# Altium schematic symbol library ShutdownCircuit.SCHLIB: 56 symbols
Pins are listed as number, name and electrical type; pins without a type are passive.

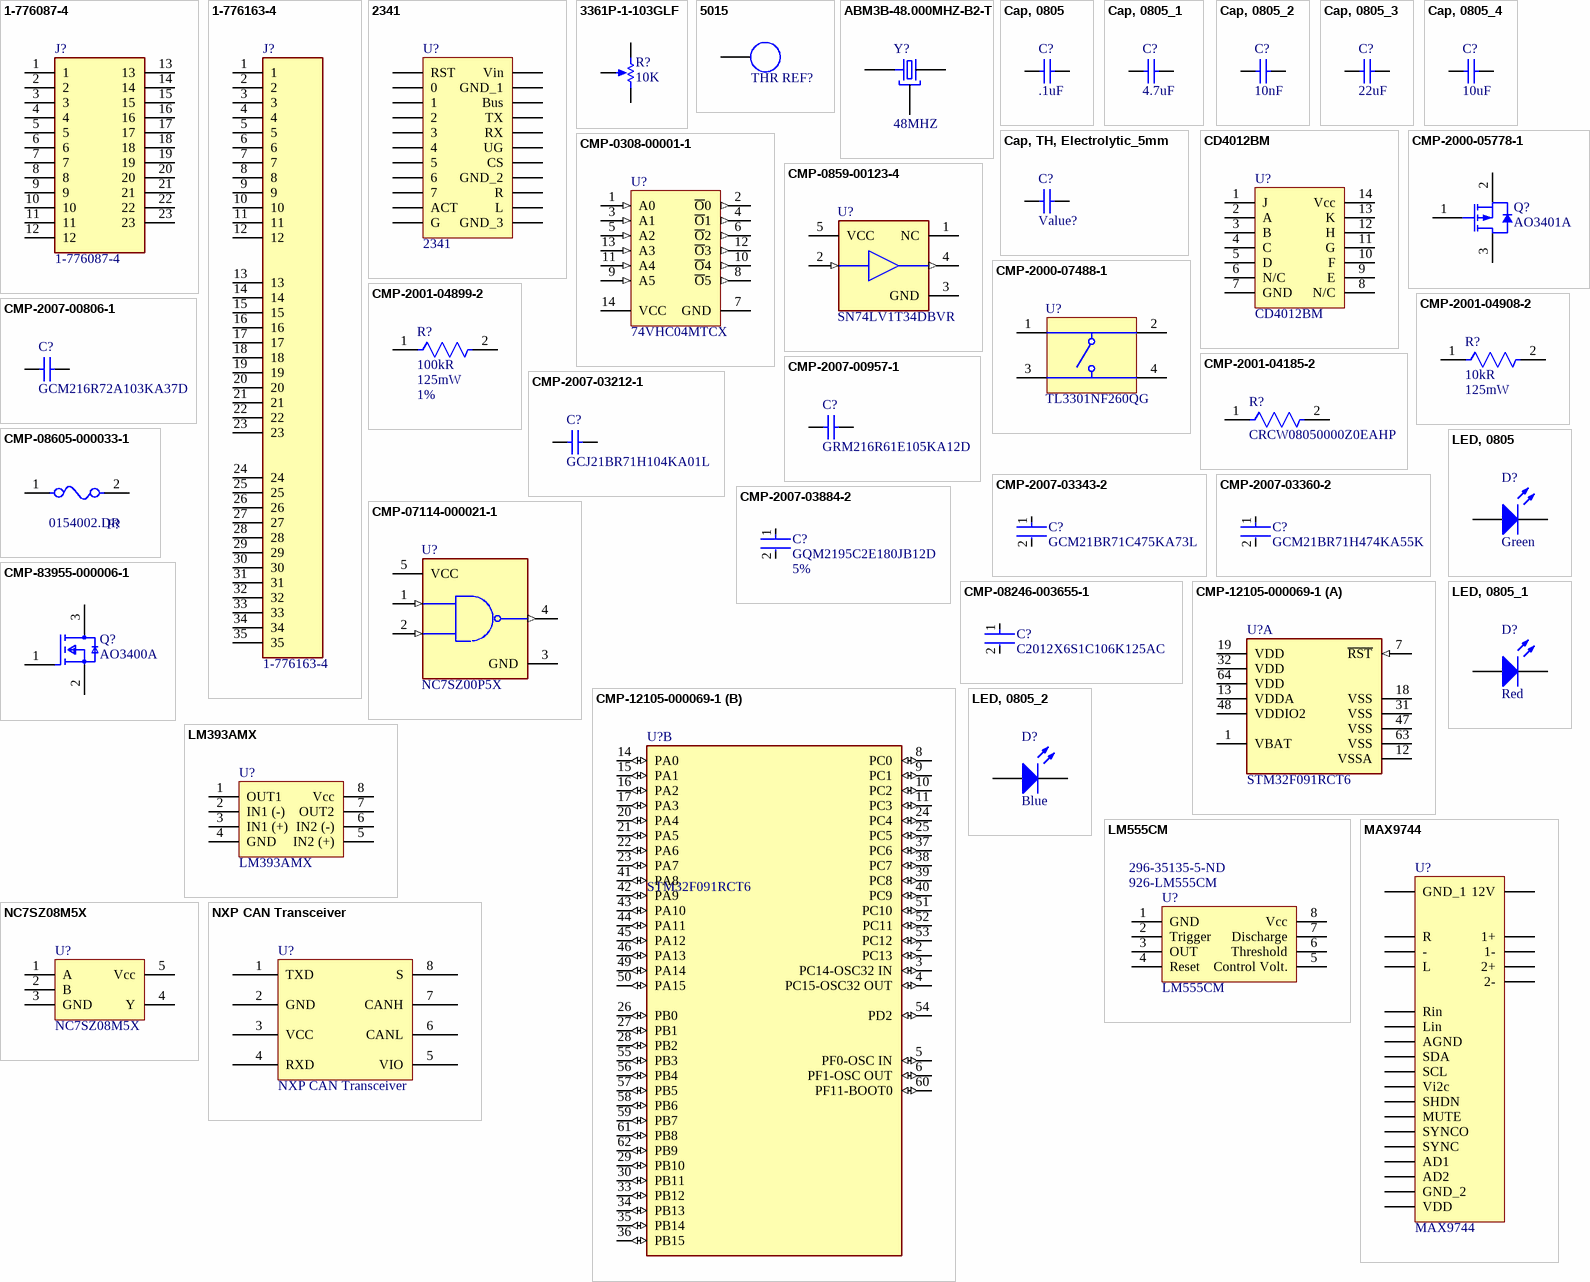
[diagram p0: symbols 1-776087-4 to NXP CAN Transceiver]

## 1-776087-4
designator J?
Conn Power HDR 23 POS 4mm Solder RA Thru-Hole 23 Terminal 1 Port Automotive; MF: TE Connectivity; Package: None; Value: *; Availability: Unavailable; SnapEDA_Link: https://www.snapeda.com/parts/1-776087-4/TE%20Connectivity%20AMP%20Connectors/view-part/1466236/?ref=snap; Price: None; MP: 1-776087-4
footprint TE_1-776087-4
pins: 1, 2, 3, 4, 5, 6, 7, 8, 9, 10, 11, 12, 13, 14, 15, 16, 17, 18, 19, 20, 21, 22, 23

## 1-776163-4
designator J?
Conn Power HDR 35 POS 4mm Solder RA Thru-Hole 1 Terminal 1 Port Automotive; MF: TE Connectivity; Value: *; Digi-Key_Purchase_URL: https://www.digikey.com/product-detail/en/te-connectivity-amp-connectors/1-776163-4/A106557-ND/1893347?utm_source=snapeda&utm_medium=aggregator&utm_campaign=symbol; EU_RoHS_Compliance: Compliant; MP: 1-776163-4; Package: None; TE_purchase_URL: https://www.te.com/usa-en/product-1-776163-4.html?te_bu=Cor&te_type=disp&te_campaign=seda_glo_cor-seda-global-disp-prtnr-fy19-seda-model-bom-cta_sma-317_1&elqCampaignId=32493; SnapEDA_Link: https://www.snapeda.com/parts/1-776163-4/TE%20Connectivity%20AMP%20Connectors/view-part/1468307/?ref=snap; Digi-Key_Part_Number: A106557-ND
footprint TE_1-776163-4
pins: 1, 2, 3, 4, 5, 6, 7, 8, 9, 10, 11, 12, 13, 14, 15, 16, 17, 18, 19, 20, 21, 22, 23, 24, 25, 26, 27, 28, 29, 30, 31, 32, 33, 34, 35

## 2341
designator U?
Adafruit Sound Board; TargetLibrary: RITRacing-ICs; PartNumber: 2341; Manufacturer: Adafruit; Publisher: T.Tallo; Published: 20Oct2016; Status: Active; ComponentLink1URL: https://learn.adafruit.com/adafruit-audio-fx-sound-board/downloads; ComponentLink1Description: Datasheet
footprint 2341 (Adafruit 2341 Soundboard)
pins: 0, 1, 2, 3, 4, 5, 6, 7, ACT, Bus, CS, G, GND_1, GND_2, GND_3, L, R, RST, RX, TX, UG, Vin

## 3361P-1-103GLF
designator R?, comment 10K
Trim Pot, 10k, SMD; TargetLibrary: RITRacing-Resistors; MFG: Bourns; Publisher: T.Tallo; Published: 22Oct2016; Status: Active; Value: 10K; Datasheet: http://www.mouser.com/ds/2/54/361-776949.pdf
footprint 3361P-1-103GLF (Bourns SMD Trim Pot)
pins: 1 VCC, 2 WIPER, 3 GND

## 5015
designator THR REF?  (value not drawn)
SMD Test Point; Manufacturer: Keystone Electronics; TargetLibrary: RITRacing-Connectors; PartNumber: 5015; Publisher: T.Tallo; Published: 22Oct2016; Status: Active; ComponentLink1URL: http://www.mouser.com/ds/2/215/005-5009-743680.pdf; ComponentLink1Description: Datasheet
footprint 5015 (SMD Test Point)
pins: 1

## ABM3B-48.000MHZ-B2-T
designator Y?, comment 48MHZ
CRYSTAL, 48MHZ, 18PF, 5 X 3.2MM; Product Range:ABM3B Series; Frequency Nom:48MHz; Frequency Stability + / -:50ppm; Frequency Tolerance + / -:20ppm; Crystal Case:SMD, 5mm x 3.2mm; Load Capacitance:18pF; Operating Temperature Min:-20 C; Manufacturer 1: Abracon; MP: ABM3B-48.000MHZ-B2-T; ESR (Equivalent Series Resistance): 50R; Tolerance: 20ppm; Frequency Stability: 50ppm; Package: None; Price: None; Value: *; Availability: Unavailable; Supplier 1: Digi-Key; Supplier Part Number 1: 535-9133-1-ND; Manufacturer Part Number 1: ABM3B-48.000MHZ-B2-T; RoHS: Yes; Category: Crystals; Stock 1: 2963; Pricing 1: 1=0.95000, 10=0.83900, 50=0.78440, 100=0.69310, 500=0.65664 (USD); Mount: Surface Mount; Case/Package: SMD/SMT; Number of Pins: 4; Min Operating Temperature: -20°C; Max Operating Temperature: 70°C; Frequency: 48MHz; Load Capacitance: 18pF; Package Quantity: 1000; Packaging: Tape and Reel; Frequency Tolerance: 20ppm; Termination: SMD/SMT; Resistor Type: Ceramic; Series: ABM3B; Operating Frequency: 48 MHz; Series Resistance: 50R; Length: 5mm; Width: 3.2mm; Height: 0.043inch; Depth: 3.2mm; REACH SVHC: No SVHC; Lead Free: Lead Free; ComponentLink1URL: https://datasheet.ciiva.com/4945/abm3b-39910-4945264.pdf?src-supplier=Mouser; ComponentLink1Description: https://datasheet.ciiva.com/4945/abm3b-39910-4945264.pdf?src-supplier=Mouser; ComponentLink2URL: https://datasheet.ciiva.com/855/abm3b-855707.pdf?src-supplier=Digi-Key; ComponentLink2Description: https://datasheet.ciiva.com/855/abm3b-855707.pdf?src-supplier=Digi-Key; ComponentLink3URL: https://datasheet.ciiva.com/855/abm3b-855708.pdf?src-supplier=Digi-Key; ComponentLink3Description: https://datasheet.ciiva.com/855/abm3b-855708.pdf?src-supplier=Digi-Key; ComponentLink4URL: https://datasheet.ciiva.com/855/abm3b-855709.pdf?src-supplier=Digi-Key; ComponentLink4Description: https://datasheet.ciiva.com/855/abm3b-855709.pdf?src-supplier=Digi-Key; ComponentLink5URL: https://datasheet.ciiva.com/7998/abm3b-7998585.pdf?src-supplier=Element14; ComponentLink5Description: https://datasheet.ciiva.com/7998/abm3b-7998585.pdf?src-supplier=Element14
footprint OSCCC500X320X110-4N
pins: 1, 2 GND, 3, 4 GND

## Cap, 0805
designator C?, comment .1uF
Cap Cer 0805 0.1UF 50V X7R 10%; Manufacturer 1: KEMET; Manufacturer Part Number 1: C0805C104K5REC7210; TargetLibrary: RITRacing-Passives; Value: Value?; Publisher: T.Tallo; Published: 22Oct2016; Status: Active; Supplier 1: Digi-Key; Supplier Part Number 1: 399-C0805C104K5REC7210CT-ND; RoHS: Yes; Category: Ceramic Capacitors; Stock 1: 8284; Pricing 1: 1=0.29000, 10=0.20000, 50=0.12000, 100=0.10140, 500=0.06936, 1000=0.06136, 2500=0.05870, 5000=0.05336 (USD); RoHS Compliant: Yes; ComponentLink1URL: https://api.kemet.com/component-edge/download/datasheet/C0805C104K5REC7210.pdf?src-supplier=Digi-Key; ComponentLink1Description: https://api.kemet.com/component-edge/download/datasheet/C0805C104K5REC7210.pdf?src-supplier=Digi-Key
footprint CAP, SMD, 0805
pins: 1 Pos, 2 Neg

## Cap, 0805_1
designator C?, comment 4.7uF
Generic SMD Cap, 0805 Package; TargetLibrary: RITRacing-Passives; Value: Value?; Publisher: T.Tallo; Published: 22Oct2016; Status: Active
footprint CAP, SMD, 0805
pins: 1 Pos, 2 Neg

## Cap, 0805_2
designator C?, comment 10nF
Generic SMD Cap, 0805 Package; TargetLibrary: RITRacing-Passives; Value: Value?; Publisher: T.Tallo; Published: 22Oct2016; Status: Active
footprint CAP, SMD, 0805
pins: 1 Pos, 2 Neg

## Cap, 0805_3
designator C?, comment 22uF
Generic SMD Cap, 0805 Package; TargetLibrary: RITRacing-Passives; Value: Value?; Publisher: T.Tallo; Published: 22Oct2016; Status: Active
footprint CAP, SMD, 0805
pins: 1 Pos, 2 Neg

## Cap, 0805_4
designator C?, comment 10uF
Generic SMD Cap, 0805 Package; TargetLibrary: RITRacing-Passives; Value: Value?; Publisher: T.Tallo; Published: 22Oct2016; Status: Active
footprint CAP, SMD, 0805
pins: 1 Pos, 2 Neg

## Cap, TH, Electrolytic_5mm
designator C?, comment Value?
Generic Cap, TH, Electrolytic; TargetLibrary: RITRacing-Passives; Publisher: T.Tallo; Published: 22Oct2016; Status: Active; Value: Value?
footprint Cap, TH, Electrolytic, 5mm (Through Hole Electrolytic CAP)
pins: 1 Pos, 2 Neg

## CD4012BM
designator U?
Dual, 4 Input NAND Gate; Manufacturer: Texas Instuments; TargetLibrary: RITRacing-ICs; PartNumber: CD4012BM; Publisher: T.Tallo; Published: 20Oct2016; Status: Active; ComponentLink1URL: http://www.ti.com/lit/ds/symlink/cd4011b.pdf; ComponentLink1Description: Datasheet
footprint SOIC-14
pins: 1 J, 2 A, 3 B, 4 C, 5 D, 6 N/C, 7 GND, 8 N/C, 9 E, 10 F, 11 G, 12 H, 13 K, 14 Vcc

## CMP-0308-00001-1
designator U?, comment 74VHC04MTCX
HEX Inverter, High Speed 3.8ns, High Noise Immunity; Manufacturer: Fairchild Semiconductor; Manufacturer 1: National Semiconductor; Supply Voltage: 2 V to 5.5 V; Mounting Technology: Surface Mount; ComponentLink1URL: http://www.fairchildsemi.com/; ComponentLink2Description: Datasheet; PackageDescription: 14-Pin Thin Shrink Small Outline Package (TSSOP), 5 x 4.4 mm Body, 0.65 mm Pitch; PackageReference: MTC14; Storage Temperature: -65 to 150 degC; ComponentLink2URL: http://www.fairchildsemi.com/ds/74/74VHC04.pdf; ComponentLink1Description: Manufacturer URL; DatasheetVersion: Rev.1.3.0, 02/2008; PartNumber: 74VHC04MTCX; Manufacturer Part Number 1: 74VHC04MTCX
footprint FAIR-MTC14_V (TSSOP, 14-Leads, Body 5x4.4mm, Pitch 0.65mm)
pins: 1 A0 (in), 2 ~{O}0 (out), 3 A1 (in), 4 ~{O}1 (out), 5 A2 (in), 6 ~{O}2 (out), 7 GND (power), 8 ~{O}5 (out), 9 A5 (in), 10 ~{O}4 (out), 11 A4 (in), 12 ~{O}3 (out), 13 A3 (in), 14 VCC (power)

## CMP-0859-00123-4
designator U?, comment SN74LV1T34DBVR
IC BUF NON-INVERT 5.5V SOT23-5; Manufacturer 1: Texas Instruments; Low Level Output Current: 8mA; Polarity: Non-Inverting; Number of Channels: 1; Propagation Delay: 15.5ns; High Level Output Current: -8mA; Quiescent Current: 1uA; Logic Function: Buffer; Min Supply Voltage: 1.6V; Min Operating Temperature: -40°C; Package Quantity: 3000; Max Operating Temperature: 125°C; Operating Supply Current: 8mA; Radiation Hardening: No; REACH SVHC: No SVHC; Number of Bits per Element: 1; Mount: Surface Mount; Number of Outputs: 1; Lead Free: Lead Free; Number of Pins: 5; Weight: 0.000353oz; Number of Output Lines: 1; Number of Elements: 1; Number of Input Lines: 1; Number of Bits: 1; Case/Package: SOT-23-5; Packaging: Tape and Reel; Max Supply Voltage: 5.5V; Number of Inputs: 1; Manufacturer Part Number 1: SN74LV1T34DBVR
footprint FP-DBV0005A-IPC_B
footprint FP-DBV0005A-MFG
footprint FP-DBV0005A-IPC_C
footprint FP-DBV0005A-IPC_A
pins: 1 NC, 2 A (in), 3 GND (power), 4 Y (out), 5 VCC (power)

## CMP-2000-05778-1
designator Q?, comment AO3401A
P-Channel MOSFET, 30 V, 4 A, -55 to 150 degC, 3-Pin SOT-23-3L, RoHS, Tape and Reel; Manufacturer: Alpha and Omega; Manufacturer 1: Alpha & Omega Semiconductor; Output Power (Max): NotRequiredW; Power Dissipation: 1.4W; Rad Hardened: No; Drain Efficiency: NotRequired%; Drain-Source On-Volt: 30V; Noise Figure: NotRequireddB; Frequency (Max): NotRequiredMHz; Number of  Elements: 1; Gate-Source Voltage (Max): ?12V; Drain Current (Max): 4A; Channel Mode: Enhancement; Drain-Source On-Res: 0.044ohm; Type: PowerMOSFET; Polarity: P; Package URL: http://www.aosmd.com/res/packaging_information/SOT-23-3L.pdf; Datasheet URL: http://www.aosmd.com/res/data_sheets/AO3401A.pdf; Package Type: SOT-23; Package Description: 3-Pin Small Outline Transistor, Body 2.95 x 1.6 mm, Pitch 0.95 mm; Mounting: SurfaceMount; Manufacturer URL: http://www.aosmd.com/; Continuous Drain Current: 4A; Package Reference: SOT-23-3L; Mounting Technology: SurfaceMount; Operating Temperature Classification: Military; Power Gain: NotRequireddB; Datasheet Version: Rev. 3, 03/2011; Operating Temp Range: -55Cto150C; Pin Count: 3; Manufacturer Part Number 1: AO3401A
footprint AO-SOT-23-3L_V (SOT23, 3-Leads, Body 3.1x1.8mm, Pitch 0.95mm)
pins: 1 GATE, 2 SOURCE, 3 DRAIN

## CMP-2000-07488-1
designator U?, comment TL3301NF260QG
Swicth, SPST, 24 V, -35 to 85 degC, 4-Pin SMD, RoHS, Tape and Reel; Manufacturer 1: E-Switch; Mechanical Life: 100000Cycles; Actuator Material: Nylon,Polyamide; Operating Force: 260gf; Current Rating: 50mA; Voltage Rating (DC): 12V; Max Voltage Rating (DC): 50V; Illumination Type: Non-Illuminated,Illuminated; Switch Travel: 0.25mm; Switch Function: Off-Mom; Actuator Type: Standard; Contact Resistance: 100mR; Actuator Length: 0.7mm; Supplier 1: Digi-Key; Supplier Part Number 1: EG1868CT-ND; Manufacturer Part Number 1: TL3301NF260QG; RoHS: Yes; Category: Tactile Switches; Stock 1: 123110; Pricing 1: 1=0.42000, 10=0.40400, 25=0.38040, 100=0.33030, 250=0.29968, 500=0.27876 (USD); Mount: Surface Mount; Contact Material: Silver; Color: Black; Contact Plating: Silver; Min Operating Temperature: -20°C; Max Operating Temperature: 70°C; Termination: Gull Wing; Packaging: Tape and Reel; Package Quantity: 1; Throw Configuration: SPST; Series: TL3301; Orientation: Straight; Contact Current Rating: 50mA; Electrical Life: 100000Cycles; Voltage Rating: 50V; Insulation Resistance: 100MR; Length: 6mm; Width: 6mm; Lead Free: Lead Free; REACH SVHC: No SVHC; RoHS Compliant: Yes; ComponentLink1URL: https://datasheet.ciiva.com/2901/p010517e-2901296.pdf?src-supplier=Digi-Key; ComponentLink1Description: https://datasheet.ciiva.com/2901/p010517e-2901296.pdf?src-supplier=Digi-Key; ComponentLink2URL: https://datasheet.ciiva.com/2901/tl3301-2901294.pdf?src-supplier=Digi-Key; ComponentLink2Description: https://datasheet.ciiva.com/2901/tl3301-2901294.pdf?src-supplier=Digi-Key; ComponentLink3URL: https://datasheet.ciiva.com/2901/tl3301-2901295.pdf?src-supplier=Digi-Key; ComponentLink3Description: https://datasheet.ciiva.com/2901/tl3301-2901295.pdf?src-supplier=Digi-Key; ComponentLink4URL: https://datasheet.ciiva.com/7637/tl3301-7637661.pdf?src-supplier=Element14; ComponentLink4Description: https://datasheet.ciiva.com/7637/tl3301-7637661.pdf?src-supplier=Element14
footprint TECO-FSM4JSMA_V (SMD, 4-Leads, Body 6x6mm, Pitch 4.5mm)
pins: 1, 2, 3, 4

## CMP-2001-04185-2
designator R?, comment CRCW08050000Z0EAHP
RES Thick Film, 0Ω, 0.5W, 0805; Manufacturer 1: Vishay Dale; Resistance: 0mR; Max Power Dissipation: 500mW; Power Rating: 330mW; Voltage Rating (DC): 150V; Temperature Coefficient: 0ppm/°C; Tolerance: 5%; Min Operating Temperature: -55°C; Features: Automotive AEC-Q200; Weight: 0.000194oz; Case Code (Metric): 2012; Package Quantity: 5000; Packaging: Tape and Reel; Height: 0.024inch; Composition: Thick Film; Case Code (Imperial): 0805; Military Standard: Not; Number of Pins: 2; Termination: Solder; Lead Free: Lead Free; Max Operating Temperature: 155°C; Radiation Hardening: No; Voltage Rating: 150V; Width: 0.049inch; Number of Terminations: 2; Contact Plating: Tin; Length: 2mm; Depth: 1.25mm; Case/Package: 0805; REACH SVHC: No SVHC; Mount: Surface Mount; Manufacturer Part Number 1: CRCW08050000Z0EAHP
footprint FP-CRCW0805-HPe3-IPC_A
footprint FP-CRCW0805-HPe3-IPC_B
footprint FP-CRCW0805-HPe3-MFG
footprint FP-CRCW0805-HPe3-IPC_C
pins: 1, 2

## CMP-2001-04899-2
designator R?, comment Resistance: 100kR  Power Rating: 125mW  Tolerance: 1%  (hidden comment: CRCW0805100KFKEA)
RES Thick Film, 100kΩ, 1%, 0.125W, 100ppm/°C, 0805; Manufacturer 1: Vishay; Voltage Rating: 150V; Case/Package: 0805; Max Operating Temperature: 155°C; Case Code (Imperial): 0805; Lead Free: Lead Free; Weight: 0.000194oz; Number of Pins: 2; Package Quantity: 5000; Height: 0.45mm; Composition: Thick Film; Military Standard: Not; Case Code (Metric): 2012; Termination: SMD/SMT; Mount: Surface Mount; Radiation Hardening: No; Width: 1.25mm; Length: 2mm; Depth: 1.25mm; Packaging: Tape and Reel; Min Operating Temperature: -55°C; Contact Plating: Tin; Temperature Coefficient: 100ppm/°C; Voltage Rating (DC): 150V; Manufacturer Part Number 1: CRCW0805100KFKEA
footprint FP-CRCW0805-e3-MFG
footprint FP-CRCW0805-e3-IPC_C
footprint FP-CRCW0805-e3-IPC_B
footprint FP-CRCW0805-e3-IPC_A
pins: 1, 2

## CMP-2001-04908-2
designator R?, comment Resistance: 10kR  Power Rating: 125mW  (hidden comment: CRCW080510K0FKEA)
RES Thick Film, 10kΩ, 1%, 0.125W, 100ppm/°C, 0805; Manufacturer 1: Vishay; Voltage Rating (DC): 150V; Weight: 0.000194oz; Package Quantity: 5000; Military Standard: Not; Max Operating Temperature: 155°C; Temperature Coefficient: 100ppm/°C; Contact Plating: Tin; Width: 1.25mm; Height: 0.45mm; Radiation Hardening: No; Tolerance: 1%; Min Operating Temperature: -55°C; Voltage Rating: 150V; Length: 2mm; Depth: 1.25mm; Termination: SMD/SMT; Packaging: Tape and Reel; Case/Package: 0805; Case Code (Metric): 2012; Lead Free: Lead Free; Case Code (Imperial): 0805; Composition: Thick Film; Manufacturer Part Number 1: CRCW080510K0FKEA
footprint FP-CRCW0805-e3-IPC_A
footprint FP-CRCW0805-e3-MFG
footprint FP-CRCW0805-e3-IPC_C
footprint FP-CRCW0805-e3-IPC_B
pins: 1, 2

## CMP-2007-00806-1
designator C?, comment GCM216R72A103KA37D
Manufacturer: Murata; Part Number: GCM216R72A103KA37D; Manufacturer 1: Murata; Manufacturer Part Number 1: GCM216R72A103KA37D
footprint CAPC2013X70X45LL15T25 (Chip Capacitor, 2-Leads, Body 2.00x1.25mm, IPC High Density)
footprint CAPC2013X70X45ML15T25 (Chip Capacitor, 2-Leads, Body 2.00x1.25mm, IPC Low Density)
footprint CAPC2013X70X45NL15T25 (Chip Capacitor, 2-Leads, Body 2.00x1.25mm, IPC Medium Density)
pins: 1, 2
1 alternate drawing of the same symbol

## CMP-2007-00957-1
designator C?, comment GRM216R61E105KA12D
Manufacturer: Murata; Part Number: GRM216R61E105KA12D; Manufacturer 1: Murata; Manufacturer Part Number 1: GRM216R61E105KA12D
footprint CAPC2013X70X45NL10T25 (Chip Capacitor, 2-Leads, Body 2.00x1.25mm, IPC Medium Density)
footprint CAPC2013X70X45LL10T25 (Chip Capacitor, 2-Leads, Body 2.00x1.25mm, IPC High Density)
footprint CAPC2013X70X45ML10T25 (Chip Capacitor, 2-Leads, Body 2.00x1.25mm, IPC Low Density)
pins: 1, 2
1 alternate drawing of the same symbol

## CMP-2007-03212-1
designator C?, comment GCJ21BR71H104KA01L
Manufacturer: Murata; Part Number: GCJ21BR71H104KA01L; Manufacturer 1: Murata; Manufacturer Part Number 1: GCJ21BR71H104KA01L
footprint CAPC2013X145X45NL30T25 (Chip Capacitor, 2-Leads, Body 2.00x1.25mm, IPC Medium Density)
footprint CAPC2013X145X45ML30T25 (Chip Capacitor, 2-Leads, Body 2.00x1.25mm, IPC Low Density)
footprint CAPC2013X145X45LL30T25 (Chip Capacitor, 2-Leads, Body 2.00x1.25mm, IPC High Density)
pins: 1, 2
1 alternate drawing of the same symbol

## CMP-2007-03343-2
designator C?, comment GCM21BR71C475KA73L
Ceramic Capacitor for Automotive 4.7uF ±10% 16VDC X7R 0805 Embossed T/R; Manufacturer 1: Murata; Voltage Rating (DC): 16V; Length: 2mm; Thickness: 0.055inch; Max Operating Temperature: 125°C; Min Operating Temperature: -55°C; Weight: 0.000335oz; Case Code (Imperial): 0805; REACH SVHC: No SVHC; Dielectric: X7R; Case/Package: 0805; Tolerance: 10%; Case Code (Metric): 2012; Lead Free: Lead Free; Depth: 1.25mm; Voltage Rating: 16V; Radiation Hardening: No; Termination: SMD/SMT; Mount: Surface Mount; Height: 1.25mm; Width: 0.049inch; Capacitance: 4.7uF; Packaging: Tape and Reel; Package Quantity: 1; Voltage: 16V; Ratings: AEC-Q200; Manufacturer Part Number 1: GCM21BR71C475KA73L
footprint FP-GCM21B-0_15-IPC_A
footprint FP-GCM21B-0_15-IPC_C
footprint FP-GCM21B-0_15-MFG
footprint FP-GCM21B-0_15-IPC_B
pins: 1, 2

## CMP-2007-03360-2
designator C?, comment GCM21BR71H474KA55K
Ceramic Capacitor for Automotive 470nF ±10% 50VDC X7R 0805 Embossed T/R; Manufacturer 1: Murata; Voltage Rating (DC): 50V; Case Code (Imperial): 0805; Length: 2mm; Thickness: 0.055inch; Width: 0.049inch; Dielectric: X7R; Termination: SMD/SMT; Case Code (Metric): 2012; Packaging: Tape and Reel; Capacitance: 470nF; Case/Package: 0805; Radiation Hardening: No; Depth: 1.25mm; Max Operating Temperature: 125°C; Tolerance: 10%; Package Quantity: 10000; Height: 1.25mm; Mount: Surface Mount; Ratings: AEC-Q200; Min Operating Temperature: -55°C; Voltage Rating: 50V; Manufacturer Part Number 1: GCM21BR71H474KA55K
footprint FP-GCM21B-0_15-IPC_A
footprint FP-GCM21B-0_15-IPC_C
footprint FP-GCM21B-0_15-IPC_B
footprint FP-GCM21B-0_15-MFG
pins: 1, 2

## CMP-2007-03884-2
designator C?, comment GQM2195C2E180JB12D  Tolerance: 5%
Ceramic Capacitor 18pF ±5% 250VDC C0G 0805 Paper T/R; Manufacturer 1: Murata; Voltage Rating: 250V; Dielectric: C0G; Depth: 1.25mm; Min Operating Temperature: -55°C; Case/Package: 0805; Packaging: Tape and Reel; Height: 0.85mm; Capacitance: 18pF; Radiation Hardening: No; Max Operating Temperature: 125°C; Voltage Rating (DC): 250V; Thickness: 0.039inch; Package Quantity: 1; Width: 1.25mm; Case Code (Metric): 2012; Case Code (Imperial): 0805; Mount: Surface Mount; Termination: SMD/SMT; Length: 2mm; Manufacturer Part Number 1: GQM2195C2E180JB12D
footprint FP-GQM219-0_15-MFG
footprint FP-GQM219-0_15-IPC_C
footprint FP-GQM219-0_15-IPC_B
footprint FP-GQM219-0_15-IPC_A
pins: 1, 2

## CMP-07114-000021-1
designator U?, comment NC7SZ00P5X
IC GATE NAND 1CH 2-INP SC70-5; Manufacturer: ON Semiconductor; Manufacturer 1: ON Semiconductor / Fairchild; Min Supply Voltage: 1.65V; Number Of Circuits: 1; Number Of Inputs: 2; Standoff Height: 0mm; Nominal Supply Current: 2uA; Max Junction Temp: +150°C; Max Supply Voltage: 5.5V; Propagation Delay: 2.4ns; Height: 1.1mm; Digikey Description: IC GATE NAND 1CH 2-INP SC70-5; ComponentLink2Description: Datasheet; Device Class L1: Integrated Circuits (ICs); Device Class L3: Logic Gates; ComponentLink2URL: https://www.onsemi.com/pub/Collateral/NC7SZ00-D.PDF; Automotive: No; Manufacturer Part Number: NC7SZ00P5X; Footprint Url: https://www.onsemi.com/pub/Collateral/419AC.PDF; Number Of Outputs: 1; Ipc Land Pattern Name: SOT65P210X95-5; Package: 419AC-01; Temperature Range High: +150°C; Category: IC; Ambient Temperature Range Low: -40°C; Mouser Description: NC7SZ00 Series 5.5 V TinyLogic® UHS Single 2-Input NAND Gate - SC-70-5; Octopart: https://octopart.com/nc7sz00p5x-on+semiconductor-84330714; Ambient Temperature Range High: +85°C; Device Class L2: Logic ICs; Lead Free: Yes; Logic Function Desc: NAND; Temperature: to +150°C; RoHS: TRUE; Manufacturer Part Number 1: NC7SZ00P5X
footprint FP-419AC-01-IPC_C
footprint FP-419AC-01-IPC_B
footprint FP-419AC-01-IPC_A
pins: 1 A (in), 2 B (in), 3 GND (power), 4 Y (out), 5 VCC (power)

## CMP-08246-003655-1
designator C?, comment C2012X6S1C106K125AC
Multilayer Ceramic Capacitors 10μF ±10% 16V X6S SMD 0805; Manufacturer 1: TDK; Capacitance: 10uF; Contact Plating: Tin; Height: 1.25mm; Thickness: 0.057inch; Case Code (Metric): 2012; Dielectric Material: Ceramic; Tolerance: 10%; Depth: 1.25mm; Length: 2mm; Lead Free: Lead Free; RoHS Compliant: Yes; Case/Package: 0805; REACH SVHC: No SVHC; Construction: Flat; Voltage Rating: 16V; Max Operating Temperature: 105°C; Series: C; Width: 0.049inch; Voltage Rating (DC): 16V; Packaging: Tape and Reel; Package Quantity: 1; Min Operating Temperature: -55°C; Mount: Surface Mount; Dielectric: X6S; Case Code (Imperial): 0805; Manufacturer Part Number 1: C2012X6S1C106K125AC
footprint FP-C2012-125-0_2-MFG
footprint FP-C2012-125-0_2-IPC_A
footprint FP-C2012-125-0_2-IPC_B
footprint FP-C2012-125-0_2-IPC_C
pins: 1, 2

## CMP-08605-000033-1
designator F?, comment 0154002.DR
FUSE BOARD MNT 2A 125VAC/VDC SMD; Manufacturer: Littelfuse; Fuse I2T: 8.2A2Sec; Voltage Rating: 125V; Value: 0.0625Ω; Fuse Blow Speed: Fast; ComponentLink2URL: https://www.littelfuse.com/~/media/electronics/datasheets/fuses/littelfuse_fuse_154_154t_154l_154tl_datasheet.pdf.pdf; Digikey Description: FUSE BOARD MNT 2A 125VAC/VDC SMD; Temperature Range Low: -55°C; Mouser Description: 154 Series Fast-Acting 125 V 2 A 9.73 x 5.03 mm OMNI-BLOK® SMT Fuse & Holder; Device Class L1: Circuit Protection; Temperature: -55°C to +125°C; Automotive: No; ComponentLink2Description: Datasheet; Device Class L3: unset; Octopart: https://octopart.com/0154002.dr-littelfuse-565858; Height: 3.81mm; Fuse Current: 2A; Temperature Range High: +125°C; RoHS: TRUE; Manufacturer Part Number: 0154002.DR; Max Fuse Ac Voltage: 125V; Category: Fuse; Package: 0154; Lead Free: Yes; Device Class L2: Fuses; Max Fuse Dc Voltage: 125V; Resistance: 0.0625Ω; Manufacturer 1: Littelfuse; Manufacturer Part Number 1: 0154002.DR
footprint FP-0154-MFG
pins: 1, 2

## CMP-12105-000069-1
designator U?, comment STM32F091RCT6
IC MCU 32BIT 256KB FLASH 64LQFP; Manufacturer: STMicroelectronics; Ram Size: 32KBytes; Number Of A/D Converters: 1; Standoff Height: 0.05mm; Number Of I/Os: 52; Number Of Pwm Channels: 6; Max Supply Voltage: 3.6V; Data Bus Width: 32bits; Max Junction Temp: +105°C; Number Of Spi Channels: 2; Min Supply Voltage: 2V; Number Of Adc Channels: 19; Memory Size: 256KBytes; Frequency: 48MHz; Nominal Supply Current: 0.9-26.9mA; Number Of Uart Channels: 8; Core Architecture: ARM Cortex-M0; Number Of Timers/Counters: 10; Interface: I2C,SPI,USART,CAN,LIN,IrDA,I2S,SMBus; Category: IC; Digikey Description: IC MCU 32BIT 256KB FLASH 64LQFP; Temperature Range Low: -40°C; Lead Free: Yes; ComponentLink2Description: Datasheet; Octopart: https://octopart.com/stm32f091rct6-stmicroelectronics-51988683; Device Class L1: Integrated Circuits (ICs); Automotive: No; Temperature Range High: +85°C; Ambient Temperature Range Low: -40°C; Device Class L2: Embedded Processors and Controllers; Number Of I2C Channels: 2; Memory Type: FLASH; Device Class L3: Microcontrollers; Height: 1.6mm; Temperature: -40°C to +85°C; Ambient Temperature Range High: +85°C; RoHS: TRUE; Ipc Land Pattern Name: QFP50P1200X1200X160-64; ComponentLink2URL: https://www.st.com/resource/en/datasheet/stm32f091rc.pdf; Manufacturer Part Number: STM32F091RCT6; Package: LQFP64-5W; Mouser Description: ARM Microcontrollers - MCU 16/32-BITS MICROS; Number Of Cores: 1
footprint FP-LQFP64-5W-MFG
footprint FP-LQFP64-5W-IPC_C
footprint FP-LQFP64-5W-IPC_B
footprint FP-LQFP64-5W-IPC_A
part A pins: 1 VBAT (power), 7 ~{RST} (in), 12 VSSA (power), 13 VDDA (power), 18 VSS (power), 19 VDD (power), 31 VSS (power), 32 VDD (power), 47 VSS (power), 48 VDDIO2 (power), 63 VSS (power), 64 VDD (power)
part B pins: 2 PC13 (io), 3 PC14-OSC32 IN (io), 4 PC15-OSC32 OUT (io), 5 PF0-OSC IN (io), 6 PF1-OSC OUT (io), 8 PC0 (io), 9 PC1 (io), 10 PC2 (io), 11 PC3 (io), 14 PA0 (io), 15 PA1 (io), 16 PA2 (io), 17 PA3 (io), 20 PA4 (io), 21 PA5 (io), 22 PA6 (io), 23 PA7 (io), 24 PC4 (io), 25 PC5 (io), 26 PB0 (io), 27 PB1 (io), 28 PB2 (io), 29 PB10 (io), 30 PB11 (io), 33 PB12 (io), 34 PB13 (io), 35 PB14 (io), 36 PB15 (io), 37 PC6 (io), 38 PC7 (io), 39 PC8 (io), 40 PC9 (io), 41 PA8 (io), 42 PA9 (io), 43 PA10 (io), 44 PA11 (io), 45 PA12 (io), 46 PA13 (io), 49 PA14 (io), 50 PA15 (io), 51 PC10 (io), 52 PC11 (io), 53 PC12 (io), 54 PD2 (io), 55 PB3 (io), 56 PB4 (io), 57 PB5 (io), 58 PB6 (io), 59 PB7 (io), 60 PF11-BOOT0 (io), 61 PB8 (io), 62 PB9 (io)

## CMP-83955-000006-1
designator Q?, comment AO3400A
MOSFET N-CH 30V 5.7A SOT23; Manufacturer 1: Alpha & Omega Semiconductor; Input Capacitance: 630pF; Number of Elements: 1; Rds On Max: 26.5mR; Max Power Dissipation: 1.4W; Gate to Source Voltage (Vgs): 12V; Min Operating Temperature: -55°C; Lead Free: Lead Free; Number of Pins: 3; Drain to Source Voltage (Vdss): 30V; Case/Package: SOT-23; Mount: Surface Mount; Continuous Drain Current (ID): 5.7A; Radiation Hardening: No; Packaging: Tape and Reel; Max Operating Temperature: 150°C; Power Dissipation: 1.4W; Manufacturer Part Number 1: AO3400A
footprint FP-SOT23-MFG
footprint FP-SOT23-IPC_C
footprint FP-SOT23-IPC_B
footprint FP-SOT23-IPC_A
pins: 1 G, 2 S, 3 D

## LED, 0805
designator D?, comment Green
LED, 0805, SMD; TargetLibrary: RITRacing-LED's; Value: Value?; Publisher: T.Tallo; Published: 22Oct2016; Status: Active; Supplier 1: Digi-Key; Supplier Part Number 1: 160-1423-2-ND
footprint LED, 0805 (Generic 0805 SMD)
pins: 1 A, 2 K

## LED, 0805_1
designator D?, comment Red
LED, 0805, SMD; TargetLibrary: RITRacing-LED's; Value: Value?; Publisher: T.Tallo; Published: 22Oct2016; Status: Active
footprint LED, 0805 (Generic 0805 SMD)
pins: 1 A, 2 K

## LED, 0805_2
designator D?, comment Blue
LED, 0805, SMD; TargetLibrary: RITRacing-LED's; Value: Value?; Publisher: T.Tallo; Published: 22Oct2016; Status: Active
footprint LED, 0805 (Generic 0805 SMD)
pins: 1 A, 2 K

## LM393AMX
designator U?
Dual Analog Comparator; Manufacturer: Texas Instruments; TargetLibrary: RITRacing-ICs; PartNumber: LM393AMX; Publisher: T.Tallo; Published: 27Oct2016; Status: Active; ComponentLink1URL: http://www.ti.com/lit/ds/symlink/lm393-n.pdf; ComponentLink1Description: Datasheet
footprint SOIC-8 (SOIC Layout)
pins: 1 OUT1, 2 IN1 (-), 3 IN1 (+), 4 GND, 5 IN2 (+), 6 IN2 (-), 7 OUT2, 8 Vcc

## LM555CM
designator U?  Supplier Part Number 1: 926-LM555CM  Supplier Part Number 2: 296-35135-5-ND
555 Timer; Manufacturer: Texas Instruments; TargetLibrary: RITRacing-ICs; PartNumber: LM555CM; Publisher: T.Tallo; Published: 27Oct2016; Status: Active; ComponentLink1URL: http://www.ti.com/lit/ds/symlink/lm393-n.pdf; ComponentLink1Description: Datasheet; Supplier 1: Mouser; Supplier 2: Digi-Key
footprint SOIC-8 (SOIC Layout)
pins: 1 GND, 2 Trigger, 3 OUT, 4 Reset, 5 Control Volt., 6 Threshold, 7 Discharge, 8 Vcc

## MAX9744
designator U?
Adafruit 20W Amplifier; TargetLibrary: RITRacing-ICs; PartNumber: MAX9744; Manufacturer: Adafruit; Publisher: T.Tallo; Published: 20Oct2016; Status: Active; ComponentLink1URL: https://learn.adafruit.com/adafruit-20w-stereo-audio-amplifier-class-d-max9744/downloads; ComponentLink1Description: Datasheet
footprint MAX9744 (Adafruit MAX9744 20W Amplifier)
pins: 1+, 1-, 2+, 2-, 12V, -, AD1, AD2, AGND, GND_1, GND_2, L, Lin, MUTE, R, Rin, SCL, SDA, SHDN, SYNC, SYNCO, VDD, Vi2c

## NC7SZ08M5X
designator U?
Single, 2 Input AND Gate, SMD; Manufacturer: ON Semi; TargetLibrary: RITRacing-ICs; PartNumber: NC7SZ08M5X; Publisher: T.Tallo; Published: 20Oct2016; Status: Active; ComponentLink1URL: http://www.ti.com/lit/ds/symlink/cd4081b.pdf; ComponentLink1Description: Datasheet
footprint SOT23-5 (5 Pin SOT23 Package)
pins: 1 A, 2 B, 3 GND, 4 Y, 5 Vcc

## NXP CAN Transceiver
designator U?
footprint NXP CAN Tranceiver
pins: 1 TXD, 2 GND, 3 VCC, 4 RXD, 5 VIO, 6 CANL, 7 CANH, 8 S

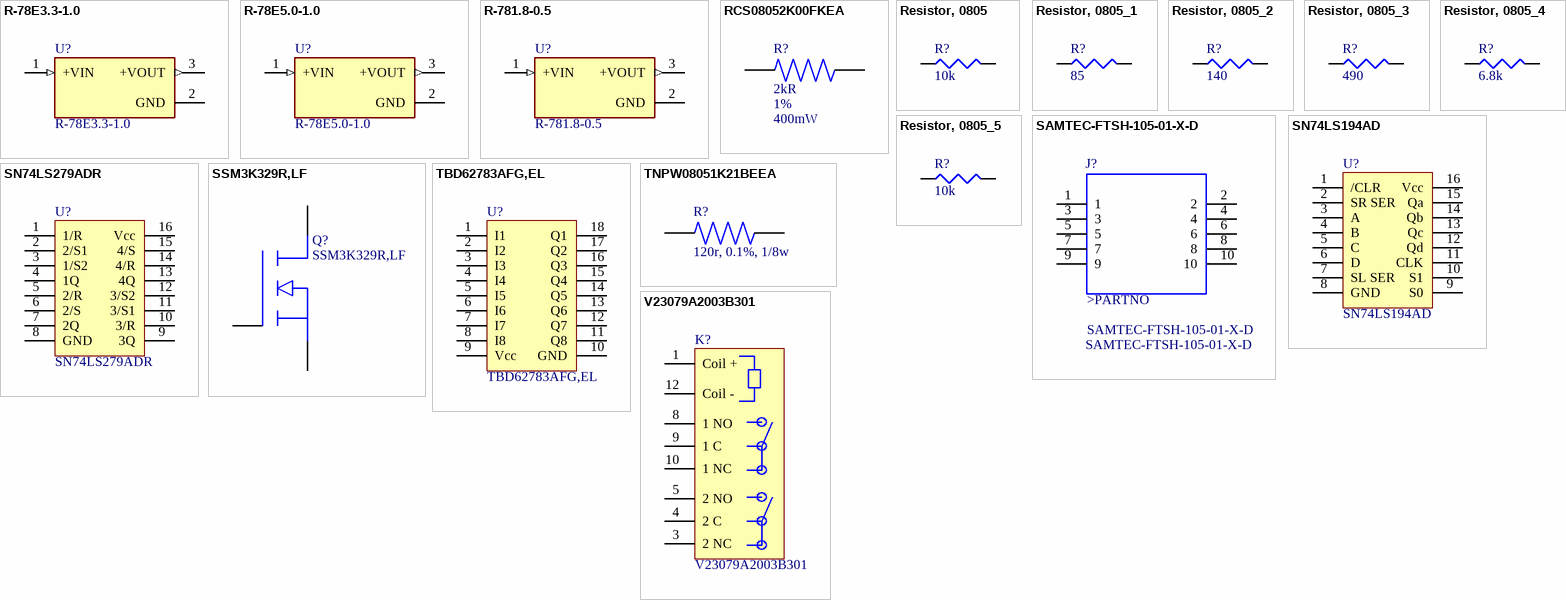
[diagram p1: symbols R-78E3.3-1.0 to V23079A2003B301]

## R-78E3.3-1.0
designator U?
1A DC/DC-Converter 'INNOLINE' SIP3 reg; MF: Recom Power; Package: SIP-3 Recom Power; Digi-Key_Part_Number: 945-2409-5-ND; SnapEDA_Link: https://www.snapeda.com/parts/R-78E3.3-0.5/Recom%20Power/view-part/229066/?ref=snap; Digi-Key_Purchase_URL: https://www.digikey.com/en/products/detail/recom-power/R-78E3-3-1-0/5327711; Value: *; MP: R-78E3.3-1.0; Supplier 1: Digi-Key; Supplier Part Number 1: 945-2409-5-ND
footprint CONV_R-78E3.3-1.0
pins: 1 +VIN (in), 2 GND (power), 3 +VOUT (out)

## R-78E5.0-1.0
designator U?
1A DC/DC-Converter 'INNOLINE' SIP3 reg; MF: Recom Power; Price: None; Availability: Unavailable; SnapEDA_Link: https://www.snapeda.com/parts/R-78E5.0-1.0/Recom%20Power/view-part/557753/?ref=snap; Value: *; Package: SIP-3 Recom Power; MP: R-78E5.0-1.0; Supplier 1: Digi-Key; Supplier Part Number 1: 945-2201-ND
footprint CONV_R-78E5.0-1.0
footprint CONV_R-78E3.3-1.0
pins: 1 +VIN (in), 2 GND (power), 3 +VOUT (out)

## R-781.8-0.5
designator U?
0.5A DC/DC-Converter 'INNOLINE' SIP3 reg; MF: Recom Power; Price: None; Value: *; Package: SIP-3 Recom Power; SnapEDA_Link: https://www.snapeda.com/parts/R-781.8-0.5/Recom%20Power/view-part/431111/?ref=snap; MP: R-781.8-0.5; Purchase-URL: https://pricing.snapeda.com/search/part/R-781.8-0.5/?ref=eda; Availability: Bad; Check_prices: https://www.snapeda.com/parts/R-781.8-0.5/Recom%20Power/view-part/431111/?ref=eda
footprint CONV_R-781.8-0.5
pins: 1 +VIN (in), 2 GND (power), 3 +VOUT (out)

## RCS08052K00FKEA
designator R?, comment Resistance: 2kR  Tolerance: 1%  Max Power Dissipation: 400mW  (hidden comment: 2k, 1%, 0.4W)
Res Thick Film 0805 2K Ohm 1% 0.4W ±100ppm/C Pad SMD Automotive T/R; Manufacturer 1: Vishay Dale; MP: RCS08052K00FKEA; Temperature Coefficient: 100ppm/°C; Package: None; Price: None; Value: *; Availability: Unavailable; Supplier 1: Digi-Key; Supplier Part Number 1: 541-2840-1-ND; Manufacturer Part Number 1: RCS08052K00FKEA; RoHS: Yes; Category: Chip SMD Resistors; Stock 1: 4243; Pricing 1: 1=0.26000, 10=0.21800, 100=0.08510, 1000=0.03560, 2500=0.03264 (USD); Case/Package: 0805; Case Code (Metric): 2012; Case Code (Imperial): 0805; Min Operating Temperature: -55°C; Max Operating Temperature: 155°C; Packaging: Tape and Reel; Resistor Type: Thick Film; Number of Terminations: 2; Features: Automotive AEC-Q200; Length: 0.079inch; Width: 0.049inch; Height: 0.02inch; ComponentLink1URL: http://www.vishay.com/docs/20065/rcse3.pdf?src-supplier=Digi-Key; ComponentLink1Description: http://www.vishay.com/docs/20065/rcse3.pdf?src-supplier=Digi-Key
footprint RESC2012X50N
pins: 1, 2

## Resistor, 0805
designator R?, comment 10k
Resistor, SMD, 0805; MP: CRGCQ0805J33K; Availability: Unavailable; Package: None; Price: None
footprint RESC2012X65N
pins: 1, 2

## Resistor, 0805_1
designator R?, comment 85
Resistor, SMD, 0805; MP: CRGCQ0805J33K; Availability: Unavailable; Package: None; Price: None
footprint RESC2012X65N
pins: 1, 2

## Resistor, 0805_2
designator R?, comment 140
Resistor, SMD, 0805; MP: CRGCQ0805J33K; Availability: Unavailable; Package: None; Price: None
footprint RESC2012X65N
pins: 1, 2

## Resistor, 0805_3
designator R?, comment 490
Resistor, SMD, 0805; MP: CRGCQ0805J33K; Availability: Unavailable; Package: None; Price: None
footprint RESC2012X65N
pins: 1, 2

## Resistor, 0805_4
designator R?, comment 6.8k
Resistor, SMD, 0805; MP: CRGCQ0805J33K; Availability: Unavailable; Package: None; Price: None
footprint RESC2012X65N
pins: 1, 2

## Resistor, 0805_5
designator R?, comment 10k
RES, THICK FILM, 10K, 1%, 0.5W, 0805, REEL; Product Range:AEC-Q200 ERJ Series; Resistance:10kohm; Power Rating:500mW; Resistance Tolerance: 1%; Voltage Rating:150V; Resistor Case Style:0805 [2012 Metric]; Packaging:Tape & Reel ;RoHS Compliant: Yes; Manufacturer 1: Panasonic; Manufacturer Part Number 1: ERJP6WF1002V; MP: CRGCQ0805J33K; Resistance: 10kR; Power Rating: 500mW; Voltage Rating: 150V; Temperature Coefficient: 200ppm/°C; Availability: Unavailable; Package: None; Price: None; Supplier 1: Digi-Key; Supplier Part Number 1: P16897CT-ND; Supplier 2: Digi-Key; Supplier Part Number 2: P16059CT-ND; RoHS: Yes; Category: Chip SMD Resistors; Stock 1: 1909; Pricing 1: 1=0.55000, 10=0.41900, 100=0.17610, 1000=0.09715, 2500=0.09108 (USD); Case/Package: 0805; Case Code (Metric): 2012; Case Code (Imperial): 0805; Contact Plating: Tin; Min Operating Temperature: -55°C; Max Operating Temperature: 155°C; Tolerance: 1%; Resistor Type: Thick Film; Packaging: Cut Tape; Number of Terminations: 2; Termination: Flat; Max Power Dissipation: 500mW; Voltage Rating (DC): 150V; Features: Automotive AEC-Q200; Length: 0.079inch; Width: 0.049inch; Height: 0.03inch; Depth: 1.25mm; REACH SVHC: No SVHC; Lead Free: Lead Free; RoHS Compliant: Yes; ComponentLink1URL: https://datasheet.ciiva.com/22785/1790600-22785975.pdf?src-supplier=Farnell; ComponentLink1Description: https://datasheet.ciiva.com/22785/1790600-22785975.pdf?src-supplier=Farnell; ComponentLink2URL: https://datasheet.ciiva.com/48531/aoa0000ce4-48531894.pdf?src-supplier=Avnet; ComponentLink2Description: https://datasheet.ciiva.com/48531/aoa0000ce4-48531894.pdf?src-supplier=Avnet
footprint RESC2012X65N
pins: 1, 2

## SAMTEC-FTSH-105-01-X-D
designator J?
Connector Header Through Hole 10 position 0.050" _1.27mm_; MP: FTSH-105-01-F-D; MF: Samtec; Value: *; Package: None; SnapEDA_Link: https://www.snapeda.com/parts/FTSH-105-01-F-D/Samtec%20Inc./view-part/105348/?ref=snap; Price: None; Availability: Unavailable
footprint SAMTEC-FTSH-105-01-X-D
footprint SAMTEC-FTSH-105-01-X-D
pins: 1, 2, 3, 4, 5, 6, 7, 8, 9, 10
text: >PARTNO

## SN74LS194AD
designator U?
4 Bit BiDirec Shift Reg; Manufacturer: Texas Instuments; TargetLibrary: RITRacing-ICs; PartNumber: SN74LS194AD; Publisher: T.Tallo; Published: 20Oct2016; Status: Active; ComponentLink1URL: http://www.ti.com/lit/ds/symlink/sn74ls194a.pdf; ComponentLink1Description: Datasheet
footprint SOIC-16 (SOIC-16(TI))
pins: 1 /CLR, 2 SR SER, 3 A, 4 B, 5 C, 6 D, 7 SL SER, 8 GND, 9 S0, 10 S1, 11 CLK, 12 Qd, 13 Qc, 14 Qb, 15 Qa, 16 Vcc

## SN74LS279ADR
designator U?
Quad /S/R Latch; Manufacturer: Texas Instuments; TargetLibrary: RITRacing-ICs; PartNumber: SN74LS279ADR; Publisher: T.Tallo; Published: 20Oct2016; Status: Active; ComponentLink1URL: http://www.ti.com/lit/ds/symlink/sn74279.pdf; ComponentLink1Description: Datasheet
footprint SOIC-16 (SOIC-16(TI))
pins: 1 1/R, 2 2/S1, 3 1/S2, 4 1Q, 5 2/R, 6 2/S, 7 2Q, 8 GND, 9 3Q, 10 3/R, 11 3/S1, 12 3/S2, 13 4Q, 14 4/R, 15 4/S, 16 Vcc

## SSM3K329R,LF
designator Q?
N-Channel MOSFET, 30V, 3.5A; Manufacturer: Toshiba; TargetLibrary: RITRacing-Transistors; PartNumber: SSM3K329R,LF; Publisher: T.Tallo; Published: 09/27/2017; Status: Active; ComponentLink1URL: See Digikey; ComponentLink1Description: Datasheet
footprint SOT23-3 (SOT23, 3-Leads, Body 2.90x2.40mm, Pitch 0.95mm, IPC Medium Density)
pins: 1 Gate, 2 Source, 3 Drain

## TBD62783AFG,EL
designator U?
Relay Driver, Toshiba, 500mA; TargetLibrary: RITRacing-ICs; PartNumber: TBD62783AFG,EL; Manufacturer: Toshiba; Publisher: T.Tallo; Published: 20Oct2016; Status: Active; ComponentLink1URL: http://www.mouser.com/ds/2/408/TBD62783APG_datasheet_en_20160511-775715.pdf; ComponentLink1Description: Datasheet
footprint SOP-18 (SOP, 18-Leads, Body 12.50x7.00mm, Pitch 1.27mm, IPC Medium Density)
pins: 1 I1, 2 I2, 3 I3, 4 I4, 5 I5, 6 I6, 7 I7, 8 I8, 9 Vcc, 10 GND, 11 Q8, 12 Q7, 13 Q6, 14 Q5, 15 Q4, 16 Q3, 17 Q2, 18 Q1

## TNPW08051K21BEEA
designator R?, comment 120r, 0.1%, 1/8w
MP: TNPW08051K21BEEA; Package: None; Price: None; Value: *; Availability: Unavailable; Supplier 1: Digi-Key; Supplier Part Number 1: 541-TNPW0805120RBEEACT-ND
footprint RESC2012X55N
pins: 1, 2

## V23079A2003B301
designator K?
DPDT SMT Relay, 2A, 220V; Manufacturer: TE Connectivity; TargetLibrary: RITRacing-Relays_Switches; PartNumber: V23079A2003B301; Publisher: T.Tallo; Published: 20Oct2016; Status: Active; ComponentLink1URL: http://www.te.com/commerce/DocumentDelivery/DDEController?Action=showdoc&DocId=Data+Sheet%7FV23700-X0000-A001%7F1117%7Fpdf%7FEnglish%7FENG_DS_V23700-X0000-A001_1117.pdf%7F2-1904058-5; ComponentLink1Description: Datasheet
footprint V23079A2003B301 (Through-Hole, TE Conn. PCB Relay)
pins: 1 Coil +, 3 2 NC, 4 2 C, 5 2 NO, 8 1 NO, 9 1 C, 10 1 NC, 12 Coil -